# Altium schematic symbol library F31L-1A7H1-11040.SchLib: 1 symbol
Pins are listed as number, name and electrical type; pins without a type are passive.

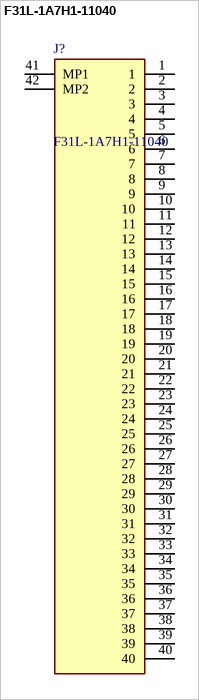
[diagram p0: symbol F31L-1A7H1-11040]

## F31L-1A7H1-11040
designator J?
40 Position FFC, FPC Connector Contacts, Bottom 0.020" (0.50mm) Surface Mount, Right Angle; Manufacturer_Name: Amphenol; Geometry.Height: 2.75mm; Farnell Part Number: *; Farnell Price/Stock: *; Manufacturer_Part_Number: F31L-1A7H1-11040; Datasheet Link: https://cdn.amphenol-cs.com/media/wysiwyg/files/drawing/a-s0099-lf31l.pdf
footprint F31L1A7H111040
pins: 1, 2, 3, 4, 5, 6, 7, 8, 9, 10, 11, 12, 13, 14, 15, 16, 17, 18, 19, 20, 21, 22, 23, 24, 25, 26, 27, 28, 29, 30, 31, 32, 33, 34, 35, 36, 37, 38, 39, 40, 41 MP1, 42 MP2